# Altium footprint library x-JST-SxB-ZR.PcbLib: 8 footprints
Each footprint in its own frame and in the unit in brackets; x right, y up, seen from the top. Pads: shape width x height; smd on the part's side, far side on the other; paste and mask are expansions set on the pad; w line width, h text height; cw(c..) or ccw(c..) is an arc to the next point about the centre after c.
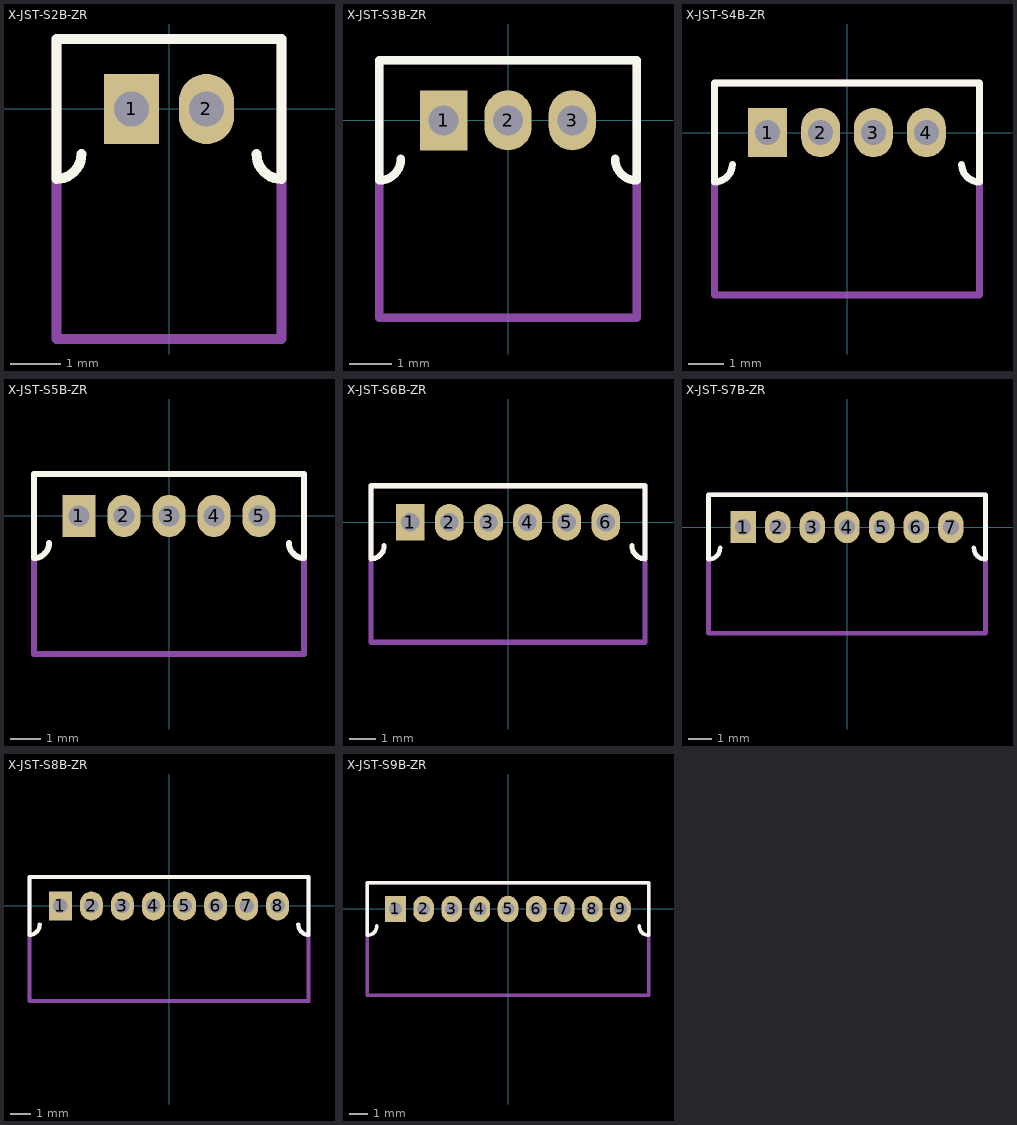
[diagram p0: the footprints below, top view; thin cyan lines are the x and y axes]

## X-JST-S2B-ZR [mm] "Header, 2 pos, 1.5mm pitch, Side Entry, TH"
height 3.7
pads (2):
  rect 1.1x1.4 hole 0.7: 1(-0.75,0)
  oval 1.1x1.4 hole 0.7: 2(0.75,0)
Top Overlay:
  lines w0.2: -1.75,-0.9 cw(c-2.25,-0.9) -2.25,-1.4 -2.25,1.4 2.25,1.4 2.25,-1.4 cw(c2.25,-0.9) 1.75,-0.9
Bottom Overlay:
  circle w0.4: c-2.1,0.65 r0.25
  lines w0.2: -2.1,1 0.95,1 ; 0.935,1 cw(c0.935,0.273) 1.662,0.273
Mechanical 13:
  lines w0.2: -2.25,-4.6 2.25,-4.6 2.25,1.4 -2.25,1.4 -2.25,-4.6
3D body: height 3.7, standoff -2.7, extent -2.25,-4.6 2.25,1.4

## X-JST-S3B-ZR [mm] "Header, 3 pos, 1.5mm pitch, Side Entry, TH"
height 3.7
pads (3):
  rect 1.1x1.4 hole 0.7: 1(-1.5,0)
  oval 1.1x1.4 hole 0.7: 2(0,0) 3(1.5,0)
Top Overlay:
  lines w0.2: -2.5,-0.9 cw(c-3,-0.9) -3,-1.4 -3,1.4 3,1.4 3,-1.4 cw(c3,-0.9) 2.5,-0.9
Bottom Overlay:
  circle w0.4: c-2.85,0.65 r0.25
  lines w0.2: -2.85,1 1.685,1 cw(c1.685,0.273) 2.412,0.273
Mechanical 13:
  lines w0.2: -3,-4.6 3,-4.6 3,1.4 -3,1.4 -3,-4.6
3D body: height 3.7, standoff -2.7, extent -3,-4.6 3,1.4

## X-JST-S4B-ZR [mm] "Header, 4 pos, 1.5mm pitch, Side Entry, TH"
height 3.7
pads (4):
  rect 1.1x1.4 hole 0.7: 1(-2.25,0)
  oval 1.1x1.4 hole 0.7: 2(-0.75,0) 3(0.75,0) 4(2.25,0)
Top Overlay:
  lines w0.2: -3.25,-0.9 cw(c-3.75,-0.9) -3.75,-1.4 -3.75,1.4 3.75,1.4 3.75,-1.4 cw(c3.75,-0.9) 3.25,-0.9
Bottom Overlay:
  circle w0.4: c-3.6,0.65 r0.25
  lines w0.2: -3.6,1 2.45,1 ; 2.435,1 cw(c2.435,0.273) 3.162,0.273
Mechanical 13:
  lines w0.2: -3.75,-4.6 -3.75,1.4 3.75,1.4 3.75,-4.6 -3.75,-4.6
3D body: height 3.7, standoff -2.7, extent -3.75,-4.6 3.75,1.4

## X-JST-S5B-ZR [mm] "Header, 5 pos, 1.5mm pitch, Side Entry, TH"
height 3.7
pads (5):
  rect 1.1x1.4 hole 0.7: 1(-3,0)
  oval 1.1x1.4 hole 0.7: 2(-1.5,0) 3(0,0) 4(1.5,0) 5(3,0)
Top Overlay:
  lines w0.2: -4,-0.9 cw(c-4.5,-0.9) -4.5,-1.4 -4.5,1.4 4.5,1.4 4.5,-1.4 cw(c4.5,-0.9) 4,-0.9
Bottom Overlay:
  circle w0.4: c-4.35,0.65 r0.25
  lines w0.2: -4.35,1 3.15,1 ; 3.185,1 cw(c3.185,0.273) 3.912,0.273
Mechanical 13:
  lines w0.2: -4.5,-4.6 -4.5,1.4 4.5,1.4 4.5,-4.6 -4.5,-4.6
3D body: height 3.7, standoff -2.7, extent -4.5,-4.6 4.5,1.4

## X-JST-S6B-ZR [mm] "Header, 6 pos, 1.5mm pitch, Side Entry, TH"
height 3.7
pads (6):
  rect 1.1x1.4 hole 0.7: 1(-3.75,0)
  oval 1.1x1.4 hole 0.7: 2(-2.25,0) 3(-0.75,0) 4(0.75,0) 5(2.25,0) 6(3.75,0)
Top Overlay:
  lines w0.2: -4.75,-0.9 cw(c-5.25,-0.9) -5.25,-1.4 -5.25,1.4 5.25,1.4 5.25,-1.4 cw(c5.25,-0.9) 4.75,-0.9
Bottom Overlay:
  circle w0.4: c-5.1,0.65 r0.25
  lines w0.2: -5.1,1 3.935,1 cw(c3.935,0.273) 4.662,0.273
Mechanical 13:
  lines w0.2: -5.25,-4.6 -5.25,1.4 5.25,1.4 5.25,-4.6 -5.25,-4.6
3D body: height 3.7, standoff -2.7, extent -5.25,-4.6 5.25,1.4

## X-JST-S7B-ZR [mm] "Header, 7 pos, 1.5mm pitch, Side Entry, TH"
height 3.7
pads (7):
  rect 1.1x1.4 hole 0.7: 1(-4.5,0)
  oval 1.1x1.4 hole 0.7: 2(-3,0) 3(-1.5,0) 4(0,0) 5(1.5,0) 6(3,0) 7(4.5,0)
Top Overlay:
  lines w0.2: -5.5,-0.9 cw(c-6,-0.9) -6,-1.4 -6,1.4 6,1.4 6,-1.4 cw(c6,-0.9) 5.5,-0.9
Bottom Overlay:
  circle w0.4: c-5.85,0.65 r0.25
  lines w0.2: -5.85,1 4.685,1 cw(c4.685,0.273) 5.412,0.273
Mechanical 13:
  lines w0.2: -6,-4.6 6,-4.6 6,1.4 -6,1.4 -6,-4.6
3D body: height 3.7, standoff -2.7, extent -6,-4.6 6,1.4

## X-JST-S8B-ZR [mm] "Header, 8 pos, 1.5mm pitch, Side Entry, TH"
height 3.7
pads (8):
  rect 1.1x1.4 hole 0.7: 1(-5.25,0)
  oval 1.1x1.4 hole 0.7: 2(-3.75,0) 3(-2.25,0) 4(-0.75,0) 5(0.75,0) 6(2.25,0) 7(3.75,0) 8(5.25,0)
Top Overlay:
  lines w0.2: -6.25,-0.9 cw(c-6.75,-0.9) -6.75,-1.4 -6.75,1.4 6.75,1.4 6.75,-1.4 cw(c6.75,-0.9) 6.25,-0.9
Bottom Overlay:
  circle w0.4: c-6.6,0.65 r0.25
  lines w0.2: -6.6,1 5.45,1 ; 5.435,1 cw(c5.435,0.273) 6.162,0.273
Mechanical 13:
  lines w0.2: -6.75,-4.6 -6.75,1.4 6.75,1.4 6.75,-4.6 -6.75,-4.6
3D body: height 3.7, standoff -2.7, extent -6.75,-4.6 6.75,1.4

## X-JST-S9B-ZR [mm] "Header, 9 pos, 1.5mm pitch, Side Entry, TH"
height 3.7
pads (9):
  rect 1.1x1.4 hole 0.7: 1(-6,0)
  oval 1.1x1.4 hole 0.7: 2(-4.5,0) 3(-3,0) 4(-1.5,0) 5(0,0) 6(1.5,0) 7(3,0) 8(4.5,0) 9(6,0)
Top Overlay:
  lines w0.2: -7,-0.9 cw(c-7.5,-0.9) -7.5,-1.4 -7.5,1.4 7.5,1.4 7.5,-1.4 cw(c7.5,-0.9) 7,-0.9
Bottom Overlay:
  circle w0.4: c-7.35,0.65 r0.25
  lines w0.2: -7.35,1 6.15,1 ; 6.185,1 cw(c6.185,0.273) 6.912,0.273
Mechanical 13:
  lines w0.2: -7.5,-4.6 -7.5,1.4 7.5,1.4 7.5,-4.6 -7.5,-4.6
3D body: height 3.7, standoff -2.7, extent -7.5,-4.6 7.5,1.4